# Altium schematic symbol library xNEO_R_V1.SchLib: 1 symbol
Pins are listed as number, name and electrical type; pins without a type are passive.

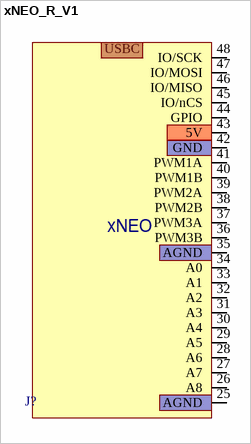
[diagram p0: symbol xNEO_R_V1]

## xNEO_R_V1
designator J?
pins: 25 AGND, 26 A8, 27 A7, 28 A6, 29 A5, 30 A4, 31 A3, 32 A2, 33 A1, 34 A0, 35 AGND, 36 PWM3B, 37 PWM3A, 38 PWM2B, 39 PWM2A, 40 PWM1B, 41 PWM1A, 42 GND, 43 5V, 44 GPIO, 45 IO/nCS, 46 IO/MISO, 47 IO/MOSI, 48 IO/SCK
text: USBC; xNEO